# EAGLE library part RPI_GPIO_HEADER (library nixie_clock)
Raspberry PI GPIO Header (raspberry pi rev 2). Numbering is taken from WiringPi http://wiringpi.com/pins/ .
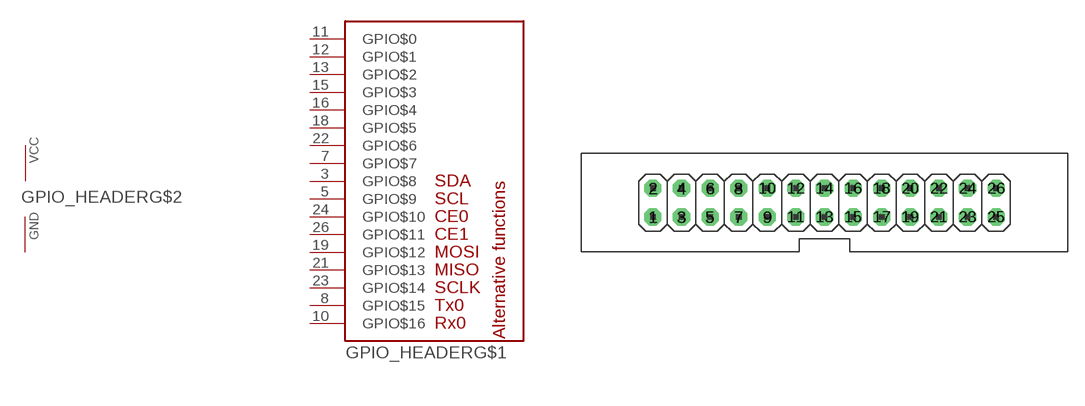
[diagram p4: symbol with the pads of 2X13; footprint 2X13]

Designator prefix GPIO_HEADER; gates G$1=RASPBERRY_HEADER_V2 G$2=PWRN

## RPI_GPIO_HEADER  [2X13]
3  G$1:GPIO$8
5  G$1:GPIO$9
7  G$1:GPIO$7
8  G$1:GPIO$15
10  G$1:GPIO$16
11  G$1:GPIO$0
12  G$1:GPIO$1
13  G$1:GPIO$2
15  G$1:GPIO$3
16  G$1:GPIO$4
18  G$1:GPIO$5
19  G$1:GPIO$12
21  G$1:GPIO$13
22  G$1:GPIO$6
23  G$1:GPIO$14
24  G$1:GPIO$10
26  G$1:GPIO$11

## Footprint 2X13 (pad centres in mm)
Raspberry Pi shrouded GPIO pin header
drill 1.016 octagon: 1 -15.24,-1.27; 2 -15.24,1.27; 3 -12.7,-1.27; 4 -12.7,1.27; 5 -10.16,-1.27; 6 -10.16,1.27; 7 -7.62,-1.27; 8 -7.62,1.27; 9 -5.08,-1.27; 10 -5.08,1.27; 11 -2.54,-1.27; 12 -2.54,1.27; 13 0,-1.27; 14 0,1.27; 15 2.54,-1.27; 16 2.54,1.27; 17 5.08,-1.27; 18 5.08,1.27; 19 7.62,-1.27; 20 7.62,1.27; 21 10.16,-1.27; 22 10.16,1.27; 23 12.7,-1.27; 24 12.7,1.27; 25 15.24,-1.27; 26 15.24,1.27